# Altium integrated library Analog Devices Data Converters Analog-to-Digital Converters.IntLib: 2404 symbols (part 161 of 346)
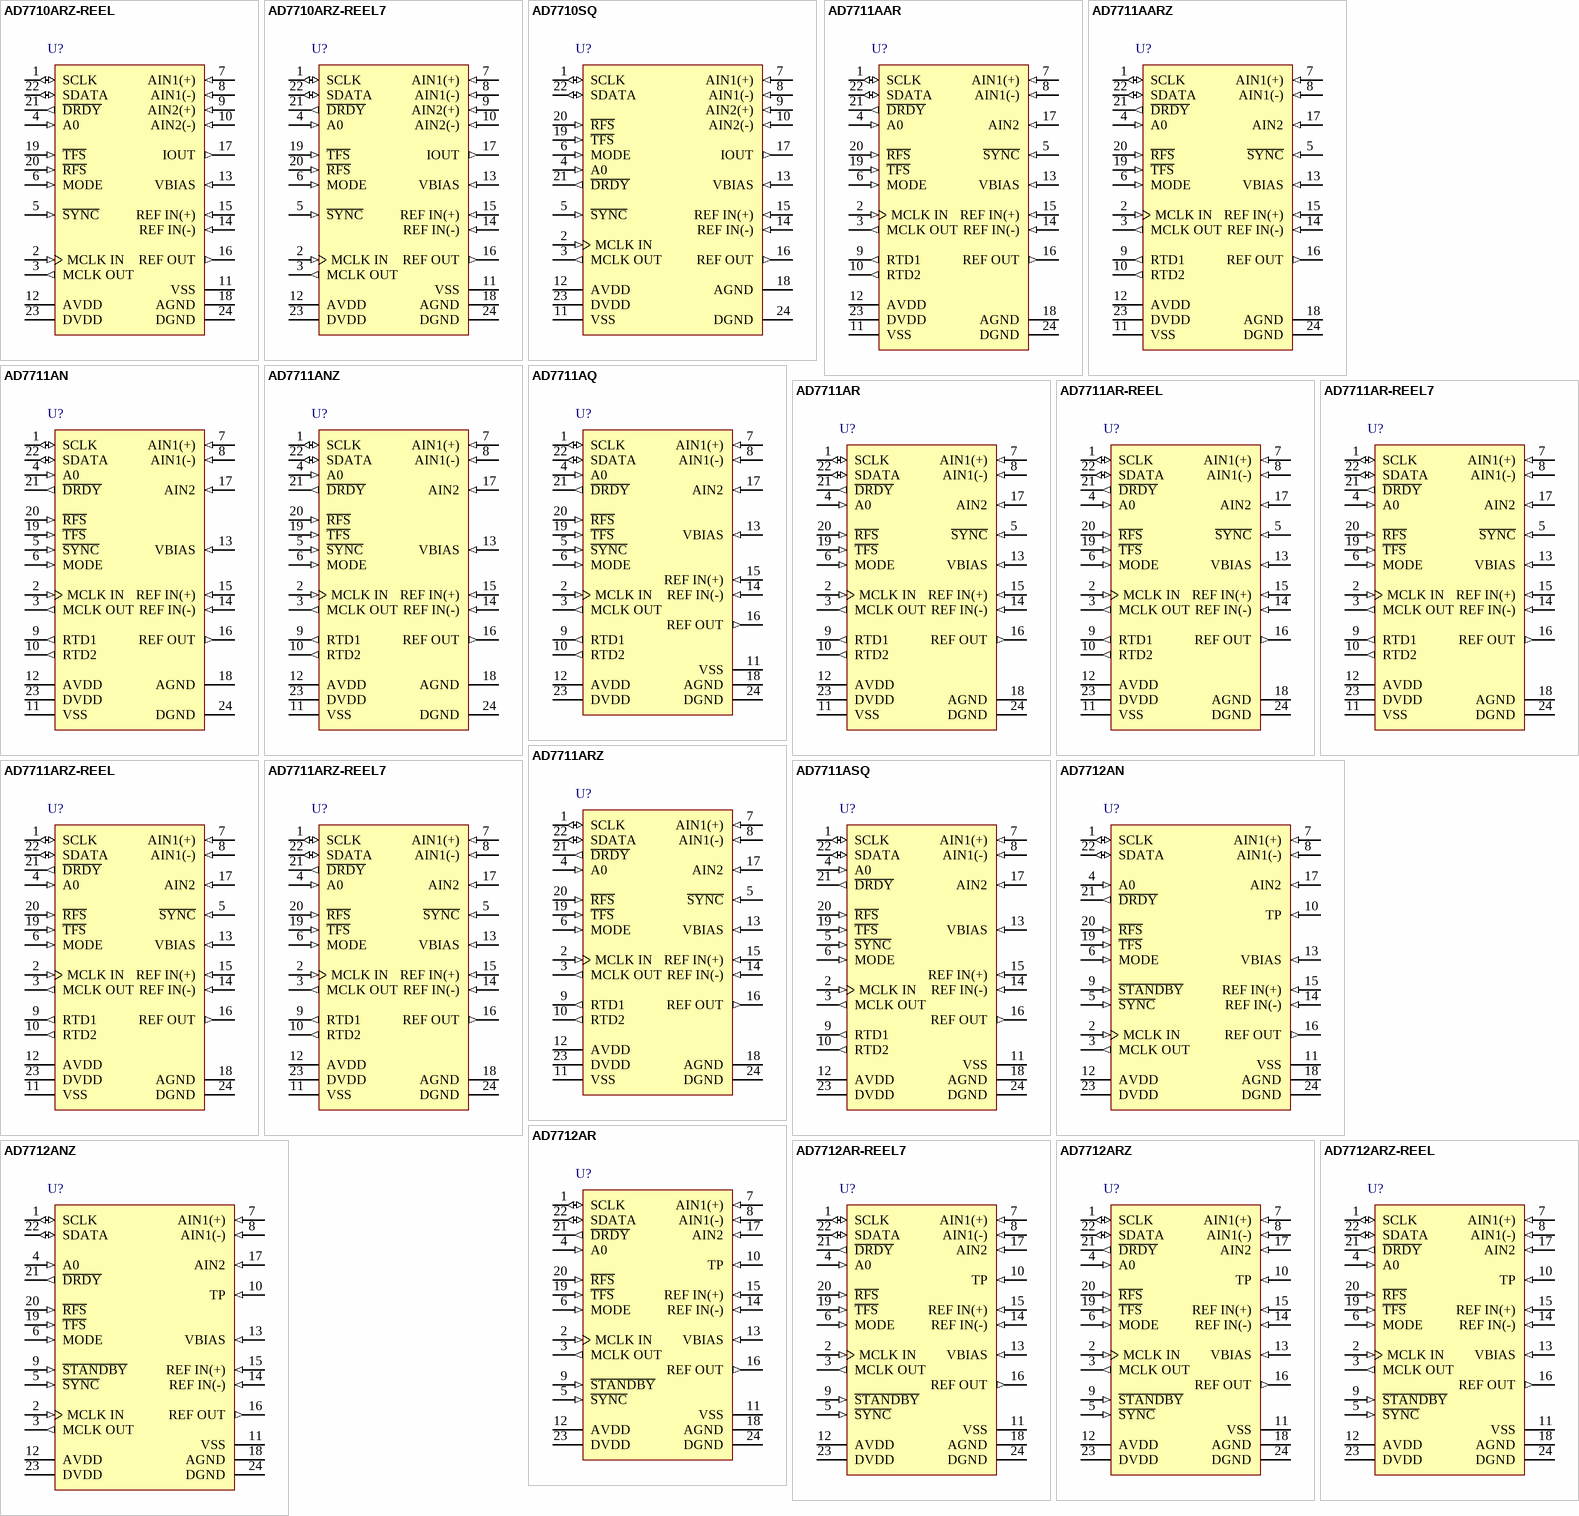
[diagram p243: symbols AD7710ARZ-REEL to AD7712ARZ-REEL]

## AD7710ARZ-REEL7
designator U?
Dual 24-Bit Signal Conditioning Analog-to-Digital Converter with Serial Interface, 1.028KSPS, 0 to +70 degC, RW-24, Pb-Free, Reel; Generic Part Number: AD7710; Manufacturer: Analog Devices; PartNumber: AD7710ARZ-REEL7; Resolution (Bits): 24; Channels: 2; Throughput Rate (SPS): 1.028K; Interface: Ser; DatasheetVersion: Rev.G; PackageVersion: 060706-A; PackageReference: RW-24; PackageDescription: 24-Lead Standard Small Outline Package [SOIC_W]; Supplier 1: Digi-Key; Supplier Part Number 1: AD7710ARZ-REEL7TR-ND; Supplier 2: Digi-Key; Supplier Part Number 2: AD7710ARZ-REEL7CT-ND; Supplier 3: Digi-Key; Supplier Part Number 3: AD7710ARZ-REEL7DKR-ND; Supplier 4: Mouser; Supplier Part Number 4: 584-AD7710ARZ-R7; RoHS: Y; Packing: Reel; Mounting Technology: Surface Mount; Code_JEDEC: MS-013-AD; ComponentLink1Description: Manufacturer URL; ComponentLink1URL: http://www.analog.com/en/index.html; ComponentLink2Description: Datasheet; ComponentLink2URL: http://www.analog.com/static/imported-files/data_sheets/AD7710.pdf; ComponentLink3Description: Package Specification; ComponentLink3URL: http://www.analog.com/static/imported-files/packages/33665150946139RW_24.pdf; ComponentLink4Description: Product URL; ComponentLink4URL: http://www.analog.com/en/analog-to-digital-converters/ad-converters/ad7710/products/product.html
footprint RW-24_N (SOIC, 24-Leads, Body 15.4x7.5mm, Pitch 1.27mm, IPC Medium Density)
footprint RW-24_L (SOIC, 24-Leads, Body 15.4x7.5mm, Pitch 1.27mm, IPC High Density)
footprint RW-24_M (SOIC, 24-Leads, Body 15.4x7.5mm, Pitch 1.27mm, IPC Low Density)
pins: 1 SCLK (io) "Serial Clock. Logic input/output, depending on the status of the MODE pin. When MODE is high, the device is in its self-clocking mode, and the SCLK pin provides a serial clock output. This SCLK becomes active when R\F\S\ or (See Datasheet)", 2 MCLK IN (in) "Master Clock Signal for the Device. This can be provided in the form of a crystal or external clock. A crystal can be tied across the MCLK IN and MCLK OUT pins. Alternatively, the MCLK IN pin can be driven with a (See Datasheet)", 3 MCLK OUT (out) "When the master clock for the device is a crystal, the crystal is connected between MCLK IN and MCLK OUT.", 4 A0 (in) "Address Input. With this input low, reading and writing to the device is to the control register. With this input high, access is to either the data register or the calibration registers.", 5 ~{SYNC} (in) "Logic Input. Allows for synchronization of the digital filters when using a number of AD7710s. It resets the nodes of the digital filter.", 6 MODE (in) "Logic Input. When this pin is high, the device is in its self-clocking mode; with this pin low, the device is in its external clocking mode.", 7 AIN1(+) (in) "Analog Input Channel 1. Positive input of the programmable gain differential analog input. The AIN1(+) input is connected to an output current source that can be used to check that an external transducer has burned out or (See Datasheet)", 8 AIN1(-) (in) "Analog Input Channel 1. Negative input of the programmable gain differential analog input.", 9 AIN2(+) (in) "Analog Input Channel 2. Positive input of the programmable gain differential analog input.", 10 AIN2(-) (in) "Analog Input Channel 2. Negative input of the programmable gain differential analog input.", 11 VSS (power) "Analog Negative Supply, 0 V to -5 V. Tied to AGND for single-supply operation. The input voltage on AIN1 or AIN2 should not go > 30 mV negative w.r.t. VSS for correct operation of the device.", 12 AVDD (power) "Analog Positive Supply Voltage, 5 V to 10 V.", 13 VBIAS (in) "Input Bias Voltage. This input voltage should be set such that VBIAS + 0.85 x VREF < AVDD and VBIAS - 0.85 x VREF  > VSS where VREF is REF IN(+) - REF IN(-). Ideally, this should be tied halfway between AVDD and VSS. Thus (See Datasheet)", 14 REF IN(-) (in) "Reference Input. The REF IN(-) can lie anywhere between AVDD and VSS provided REF IN(+) is greater than REF IN(-).", 15 REF IN(+) (in) "Reference Input. The reference input is differential providing that REF IN(+) is greater than REF IN(-). REF IN(+) can lie anywhere between AVDD and VSS.", 16 REF OUT (out) "Reference Output. The internal 2.5 V reference is provided at this pin. This is a single-ended output which is referred to AGND. It is a buffered output which is capable of providing 1 mA to an external load.", 17 IOUT (out) "Compensation Current Output. A 20 uA constant current is provided at this pin. This current can be used in association with an external thermistor to provide cold junction compensation in thermocouple applications. This (See Datasheet)", 18 AGND (power) "Ground Reference Point for Analog Circuitry.", 19 ~{TFS} (in) "Transmit Frame Synchronization. Active low logic input used to write serial data to the device with serial data expected after the falling edge of this pulse. In the self-clocking mode, the serial clock becomes active after (See Datasheet)", 20 ~{RFS} (in) "Receive Frame Synchronization. Active low logic input used to access serial data from the device. In the self-clocking mode, the SCLK and SDATA lines both become active after R\F\S\ goes low. In the external clocking mode, (See Datasheet)", 21 ~{DRDY} (out) "Logic Output. A falling edge indicates that a new output word is available for transmission. The D\R\D\Y\ pin will return high upon completion of transmission of a full output word. D\R\D\Y\ is also used to indicate when the (See Datasheet)", 22 SDATA (io) "Serial Data. Input/output with serial data being written to either the control register or the calibration registers, and serial data being accessed from the control register, calibration registers, or the data register. (See Datasheet)", 23 DVDD (power) "Digital Supply Voltage, 5 V. DVDD should not exceed AVDD by more than 0.3 V in normal operation.", 24 DGND (power) "Ground Reference Point for Digital Circuitry."

## AD7710SQ
designator U?
Dual 24-Bit Signal Conditioning Analog-to-Digital Converter with Serial Interface, 1.028KSPS, -55 to +125 degC, Q-24, Tube; Generic Part Number: AD7710; Manufacturer: Analog Devices; PartNumber: AD7710SQ; Resolution (Bits): 24; Channels: 2; Throughput Rate (SPS): 1.028K; Interface: Ser; DatasheetVersion: Rev.G; PackageVersion: 2000; PackageReference: Q-24; PackageDescription: 24-Lead Ceramic Dual In-Line Package [CERDIP]; Supplier 1: Digi-Key; Supplier Part Number 1: AD7710SQ-ND; Supplier 2: Farnell; Supplier Part Number 2: 2296090; Supplier 3: Newark; Supplier Part Number 3: 09B5890; Supplier 4: Mouser; Supplier Part Number 4: 584-AD7710SQ; RoHS: N; Packing: Tube; Mounting Technology: Through-hole; ComponentLink1Description: Manufacturer URL; ComponentLink1URL: http://www.analog.com/en/index.html; ComponentLink2Description: Datasheet; ComponentLink2URL: http://www.analog.com/static/imported-files/data_sheets/AD7710.pdf; ComponentLink3Description: Package Specification; ComponentLink3URL: http://www.analog.com/static/imported-files/data_sheets/AD7837_7847.pdf; ComponentLink4Description: Product URL; ComponentLink4URL: http://www.analog.com/en/analog-to-digital-converters/ad-converters/ad7710/products/product.html
footprint Q-24 (DIP, 24-Leads, Row Spacing 7.62mm, Pitch 2.54mm, Body 31.9x6.7mm)
pins: 1 SCLK (io) "Serial Clock. Logic input/output, depending on the status of the MODE pin. When MODE is high, the device is in its self-clocking mode, and the SCLK pin provides a serial clock output. This SCLK becomes active when R\F\S\ or (See Datasheet)", 2 MCLK IN (in) "Master Clock Signal for the Device. This can be provided in the form of a crystal or external clock. A crystal can be tied across the MCLK IN and MCLK OUT pins. Alternatively, the MCLK IN pin can be driven with a (See Datasheet)", 3 MCLK OUT (out) "When the master clock for the device is a crystal, the crystal is connected between MCLK IN and MCLK OUT.", 4 A0 (in) "Address Input. With this input low, reading and writing to the device is to the control register. With this input high, access is to either the data register or the calibration registers.", 5 ~{SYNC} (in) "Logic Input. Allows for synchronization of the digital filters when using a number of AD7710s. It resets the nodes of the digital filter.", 6 MODE (in) "Logic Input. When this pin is high, the device is in its self-clocking mode; with this pin low, the device is in its external clocking mode.", 7 AIN1(+) (in) "Analog Input Channel 1. Positive input of the programmable gain differential analog input. The AIN1(+) input is connected to an output current source that can be used to check that an external transducer has burned out or (See Datasheet)", 8 AIN1(-) (in) "Analog Input Channel 1. Negative input of the programmable gain differential analog input.", 9 AIN2(+) (in) "Analog Input Channel 2. Positive input of the programmable gain differential analog input.", 10 AIN2(-) (in) "Analog Input Channel 2. Negative input of the programmable gain differential analog input.", 11 VSS (power) "Analog Negative Supply, 0 V to -5 V. Tied to AGND for single-supply operation. The input voltage on AIN1 or AIN2 should not go > 30 mV negative w.r.t. VSS for correct operation of the device.", 12 AVDD (power) "Analog Positive Supply Voltage, 5 V to 10 V.", 13 VBIAS (in) "Input Bias Voltage. This input voltage should be set such that VBIAS + 0.85 x VREF < AVDD and VBIAS - 0.85 x VREF  > VSS where VREF is REF IN(+) - REF IN(-). Ideally, this should be tied halfway between AVDD and VSS. Thus (See Datasheet)", 14 REF IN(-) (in) "Reference Input. The REF IN(-) can lie anywhere between AVDD and VSS provided REF IN(+) is greater than REF IN(-).", 15 REF IN(+) (in) "Reference Input. The reference input is differential providing that REF IN(+) is greater than REF IN(-).REF IN(+) can lie anywhere between AVDD and VSS.", 16 REF OUT (out) "Reference Output. The internal 2.5 V reference is provided at this pin. This is a single-ended output which is referred to AGND. It is a buffered output which is capable of providing 1 mA to an external load.", 17 IOUT (out) "Compensation Current Output. A 20 uA constant current is provided at this pin. This current can be used in association with an external thermistor to provide cold junction compensation in thermocouple applications. This (See Datasheet)", 18 AGND (power) "Ground Reference Point for Analog Circuitry.", 19 ~{TFS} (in) "Transmit Frame Synchronization. Active low logic input used to write serial data to the device with serial data expected after the falling edge of this pulse. In the self-clocking mode, the serial clock becomes active after (See Datasheet)", 20 ~{RFS} (in) "Receive Frame Synchronization. Active low logic input used to access serial data from the device. In the self-clocking mode, the SCLK and SDATA lines both become active after R\F\S\ goes low. In the external clocking mode, (See Datasheet)", 21 ~{DRDY} (out) "Logic Output. A falling edge indicates that a new output word is available for transmission. The DRDY pin will return high upon completion of transmission of a full output word. DRDY is also used to indicate when the AD7711 (See Datasheet)", 22 SDATA (io) "Serial Data. Input/output with serial data being written to either the control register or the calibration registers, and serial data being accessed from the control register, calibration registers, or the data register. (See Datasheet)", 23 DVDD (power) "Digital Supply Voltage, 5 V. DVDD should not exceed AVDD by more than 0.3 V in normal operation.", 24 DGND (power) "Ground Reference Point for Digital Circuitry."

## AD7711AAR
designator U?
Dual 24-Bit Signal Conditioning Analog-to-Digital Converter with Serial Interface and RTD Excitation Currents, LC2MOS, 1.028KSPS, -40 to +85 degC, RW-24, Tube; Generic Part Number: AD7711; Manufacturer: Analog Devices; PartNumber: AD7711AAR; Resolution (Bits): 24; Channels: 2; Throughput Rate (SPS): 1.028K; Interface: Ser; DatasheetVersion: Rev.G; PackageVersion: 060706-A; PackageReference: RW-24; PackageDescription: 24-Lead Standard Small Outline Package [SOIC_W]; Supplier 1: Digi-Key; Supplier Part Number 1: AD7711AAR-ND; Supplier 2: Mouser; Supplier Part Number 2: 584-AD7711AAR; RoHS: N; Packing: Tube; Mounting Technology: Surface Mount; Code_JEDEC: MS-013-AD; ComponentLink1Description: Manufacturer URL; ComponentLink1URL: http://www.analog.com/en/index.html; ComponentLink2Description: Datasheet; ComponentLink2URL: http://www.analog.com/static/imported-files/data_sheets/AD7711.pdf; ComponentLink3Description: Package Specification; ComponentLink3URL: http://www.analog.com/static/imported-files/packages/33665150946139RW_24.pdf; ComponentLink4Description: Product URL; ComponentLink4URL: http://www.analog.com/en/analog-to-digital-converters/ad-converters/ad7711/products/product.html
footprint RW-24_N (SOIC, 24-Leads, Body 15.4x7.5mm, Pitch 1.27mm, IPC Medium Density)
footprint RW-24_L (SOIC, 24-Leads, Body 15.4x7.5mm, Pitch 1.27mm, IPC High Density)
footprint RW-24_M (SOIC, 24-Leads, Body 15.4x7.5mm, Pitch 1.27mm, IPC Low Density)
pins: 1 SCLK (io) "Serial Clock. Logic input/output, depending on the status of the MODE pin. When MODE is high, the device is in its self-clocking mode, and the SCLK pin provides a serial clock output. This SCLK becomes active when R\F\S \or (See Datasheet)", 2 MCLK IN (in) "Master Clock Signal for the Device. This can be provided in the form of a crystal or external clock. A crystal can be tied across the MCLK IN and MCLK OUT pins. Alternatively, the MCLK IN pin can be driven with a (See Datasheet)", 3 MCLK OUT (out) "When the master clock for the device is a crystal, the crystal is connected between MCLK IN and MCLK OUT.", 4 A0 (in) "Address Input. With this input low, reading and writing to the device is to the control register. With this input high, access is to either the data register or the calibration registers.", 5 ~{SYNC} (in) "Logic Input.  Allows  for synchronization of the digital filters when using a number of AD7711s. It resets the nodes of the digital filter.", 6 MODE (in) "Logic Input. When this pin is high, the device is in its self-clocking mode; with this pin low, the device is in its external clocking mode.", 7 AIN1(+) (in) "Analog  Input Channel 1. Positive input of the programmable gain differential  analog  input. The AIN1(+) input is connected to an output current source that can be used to check that an external transducer has burned out or (See Datasheet)", 8 AIN1(-) (in) "Analog Input Channel 1. Negative input of the programmable gain differential  analog  input.", 9 RTD1 (out) "Constant Current Output. A nominal 200 uA constant current is provided at this pin; this current can be used as the excitation current for RTDs. This current can be turned on or off via the control register.", 10 RTD2 (out) "Constant Current Output. A nominal 200 uA constant current is provided at this pin; this current can be used as the excitation current for RTDs. This current can be turned on or off via the control register, and can be used (See Datasheet)", 11 VSS (power) "Analog Negative Supply, 0 V to -5 V. Tied to AGND for single-supply operation. The input voltage on AIN1 or AIN2 should not go > 30 mV negative w.r.t. VSS for correct operation of the device.", 12 AVDD (power) "Analog  Positive Supply Voltage, 5 V to 10 V.", 13 VBIAS (in) "Input Bias Voltage. This input voltage should be set such that VBIAS + 0.85 xVREF < AVDD and VBIAS - 0.85 x VREF > VSS where VREF is REF IN(+) - REF IN(-). Ideally, this should be tied halfway between AVDD and VSS. Thus with (See Datasheet)", 14 REF IN(-) (in) "Reference Input. The REF IN(-) can lie anywhere between AVDD and VSS provided REF IN(+) is greater than REF IN(-).", 15 REF IN(+) (in) "Reference Input. The reference input is differential provided REF IN(+) is greater than REF IN(-).REF IN(+) can lie anywhere between AVDD and VSS.", 16 REF OUT (out) "Reference Output. The internal 2.5 V reference is provided at this pin. This is a single-ended outputthat is referred to AGND. It is a buffered output capable of providing 1 mA to an external load.", 17 AIN2 (in) "Analog  Input Channel 2. Single-ended programmable gain  analog  input.", 18 AGND (power) "Ground Reference Point for Analog Circuitry.", 19 ~{TFS} (in) "Transmit Frame Synchronization. Active low logic input used to write serial data to the device with serial data expected after the falling edge of this pulse. In the self-clocking mode, the serial clock becomes active after (See Datasheet)", 20 ~{RFS} (in) "Receive Frame Synchronization. Active low logic input used to access serial data from the device. In the self-clocking mode, the SCLK and SDATA lines both become active after R\F\S\ goes low. In the external clocking mode, (See Datasheet)", 21 ~{DRDY} (out) "Logic  Output. A falling edge indicates that a new output word is available for transmission. The D\R\D\Y\ pin will return high upon completion of transmission of a full output word. D\R\D\Y\ is also used to indicate when (See Datasheet)", 22 SDATA (io) "Serial Data. Input/output with serial data being written to either the control register or the calibration registers and serial data being accessed from the control register, calibration registers, or the data register.(See Datasheet)", 23 DVDD (power) "Digital Supply Voltage, 5 V. DVDD should not exceed AVDD by more than 0.3 V in normal operation.", 24 DGND (power) "Ground Reference Point for Digital Circuitry."

## AD7711AARZ
designator U?
Dual 24-Bit Signal Conditioning Analog-to-Digital Converter with Serial Interface and RTD Excitation Currents, LC2MOS, 1.028KSPS, -40 to +85 degC, RW-24, Pb-Free, Tube; Generic Part Number: AD7711; Manufacturer: Analog Devices; PartNumber: AD7711AARZ; Resolution (Bits): 24; Channels: 2; Throughput Rate (SPS): 1.028K; Interface: Ser; DatasheetVersion: Rev.G; PackageVersion: 060706-A; PackageReference: RW-24; PackageDescription: 24-Lead Standard Small Outline Package [SOIC_W]; Supplier 1: Digi-Key; Supplier Part Number 1: AD7711AARZ-ND; Supplier 2: Newark; Supplier Part Number 2: 59K5310; Supplier 3: Mouser; Supplier Part Number 3: 584-AD7711AARZ; RoHS: Y; Packing: Tube; Mounting Technology: Surface Mount; Code_JEDEC: MS-013-AD; ComponentLink1Description: Manufacturer URL; ComponentLink1URL: http://www.analog.com/en/index.html; ComponentLink2Description: Datasheet; ComponentLink2URL: http://www.analog.com/static/imported-files/data_sheets/AD7711.pdf; ComponentLink3Description: Package Specification; ComponentLink3URL: http://www.analog.com/static/imported-files/packages/33665150946139RW_24.pdf; ComponentLink4Description: Product URL; ComponentLink4URL: http://www.analog.com/en/analog-to-digital-converters/ad-converters/ad7711/products/product.html
footprint RW-24_N (SOIC, 24-Leads, Body 15.4x7.5mm, Pitch 1.27mm, IPC Medium Density)
footprint RW-24_L (SOIC, 24-Leads, Body 15.4x7.5mm, Pitch 1.27mm, IPC High Density)
footprint RW-24_M (SOIC, 24-Leads, Body 15.4x7.5mm, Pitch 1.27mm, IPC Low Density)
pins: 1 SCLK (io) "Serial Clock. Logic input/output, depending on the status of the MODE pin. When MODE is high, the device is in its self-clocking mode, and the SCLK pin provides a serial clock output. This SCLK becomes active when R\F\S \or (See Datasheet)", 2 MCLK IN (in) "Master Clock Signal for the Device. This can be provided in the form of a crystal or external clock. A crystal can be tied across the MCLK IN and MCLK OUT pins. Alternatively, the MCLK IN pin can be driven with a (See Datasheet)", 3 MCLK OUT (out) "When the master clock for the device is a crystal, the crystal is connected between MCLK IN and MCLK OUT.", 4 A0 (in) "Address Input. With this input low, reading and writing to the device is to the control register. With this input high, access is to either the data register or the calibration registers.", 5 ~{SYNC} (in) "Logic Input.  Allows  for synchronization of the digital filters when using a number of AD7711s. It resets the nodes of the digital filter.", 6 MODE (in) "Logic Input. When this pin is high, the device is in its self-clocking mode; with this pin low, the device is in its external clocking mode.", 7 AIN1(+) (in) "Analog  Input Channel 1. Positive input of the programmable gain differential  analog  input. The AIN1(+) input is connected to an output current source that can be used to check that an external transducer has burned out or (See Datasheet)", 8 AIN1(-) (in) "Analog Input Channel 1. Negative input of the programmable gain differential  analog  input.", 9 RTD1 (out) "Constant Current Output. A nominal 200 uA constant current is provided at this pin; this current can be used as the excitation current for RTDs. This current can be turned on or off via the control register.", 10 RTD2 (out) "Constant Current Output. A nominal 200 uA constant current is provided at this pin; this current can be used as the excitation current for RTDs. This current can be turned on or off via the control register, and can be used (See Datasheet)", 11 VSS (power) "Analog Negative Supply, 0 V to -5 V. Tied to AGND for single-supply operation. The input voltage on AIN1 or AIN2 should not go > 30 mV negative w.r.t. VSS for correct operation of the device.", 12 AVDD (power) "Analog  Positive Supply Voltage, 5 V to 10 V.", 13 VBIAS (in) "Input Bias Voltage. This input voltage should be set such that VBIAS + 0.85 xVREF < AVDD and VBIAS - 0.85 x VREF > VSS where VREF is REF IN(+) - REF IN(-). Ideally, this should be tied halfway between AVDD and VSS. Thus with (See Datasheet)", 14 REF IN(-) (in) "Reference Input. The REF IN(-) can lie anywhere between AVDD and VSS provided REF IN(+) is greater than REF IN(-).", 15 REF IN(+) (in) "Reference Input. The reference input is differential provided REF IN(+) is greater than REF IN(-).REF IN(+) can lie anywhere between AVDD and VSS.", 16 REF OUT (out) "Reference Output. The internal 2.5 V reference is provided at this pin. This is a single-ended outputthat is referred to AGND. It is a buffered output capable of providing 1 mA to an external load.", 17 AIN2 (in) "Analog  Input Channel 2. Single-ended programmable gain  analog  input.", 18 AGND (power) "Ground Reference Point for Analog Circuitry.", 19 ~{TFS} (in) "Transmit Frame Synchronization. Active low logic input used to write serial data to the device with serial data expected after the falling edge of this pulse. In the self-clocking mode, the serial clock becomes active after (See Datasheet)", 20 ~{RFS} (in) "Receive Frame Synchronization. Active low logic input used to access serial data from the device. In the self-clocking mode, the SCLK and SDATA lines both become active after R\F\S\ goes low. In the external clocking mode, (See Datasheet)", 21 ~{DRDY} (out) "Logic  Output. A falling edge indicates that a new output word is available for transmission. The D\R\D\Y\ pin will return high upon completion of transmission of a full output word. D\R\D\Y\ is also used to indicate when (See Datasheet)", 22 SDATA (io) "Serial Data. Input/output with serial data being written to either the control register or the calibration registers and serial data being accessed from the control register, calibration registers, or the data register.(See Datasheet)", 23 DVDD (power) "Digital Supply Voltage, 5 V. DVDD should not exceed AVDD by more than 0.3 V in normal operation.", 24 DGND (power) "Ground Reference Point for Digital Circuitry."

## AD7711AN
designator U?
Dual 24-Bit Signal Conditioning Analog-to-Digital Converter with Serial Interface and RTD Excitation Currents, LC2MOS, 1.028KSPS, -40 to +85 degC, N-24-1, Tube; Generic Part Number: AD7711; Manufacturer: Analog Devices; PartNumber: AD7711AN; Resolution (Bits): 24; Channels: 2; Throughput Rate (SPS): 1.028K; Interface: Ser; DatasheetVersion: Rev.G; PackageVersion: 071006-A; PackageReference: N-24-1; PackageDescription: 24-Lead Plastic Dual In-Line Package [PDIP] Narrow Body; Supplier 1: Digi-Key; Supplier Part Number 1: AD7711AN-ND; Supplier 2: Newark; Supplier Part Number 2: 05F7525; RoHS: N; Packing: Tube; Mounting Technology: Through-hole; Code_JEDEC: MS-001; ComponentLink1Description: Manufacturer URL; ComponentLink1URL: http://www.analog.com/en/index.html; ComponentLink2Description: Datasheet; ComponentLink2URL: http://www.analog.com/static/imported-files/data_sheets/AD7711.pdf; ComponentLink3Description: Package Specification; ComponentLink3URL: http://www.analog.com/static/imported-files/packages/50726455539629N_24_1.pdf; ComponentLink4Description: Product URL; ComponentLink4URL: http://www.analog.com/en/analog-to-digital-converters/ad-converters/ad7711/products/product.html
footprint N-24-1 (DIP, 24-Leads, Row Spacing 7.62mm, Pitch 2.54mm, Body 31.9x6.6mm)
pins: 1 SCLK (io) "Serial Clock. Logic input/output, depending on the status of the MODE pin. When MODE is high, the device is in its self-clocking mode, and the SCLK pin provides a serial clock output. This SCLK becomes active when R\F\S\ or (See Datasheet)", 2 MCLK IN (in) "Master Clock Signal for the Device. This can be provided in the form of a crystal or external clock. A crystal can be tied across the MCLK IN and MCLK OUT pins. Alternatively, the MCLK IN pin can be driven with a (See Datasheet)", 3 MCLK OUT (out) "When the master clock for the device is a crystal, the crystal is connected between MCLK IN and MCLK OUT.", 4 A0 (in) "Address Input. With this input low, reading and writing to the device is to the control register. With this input high, access is to either the data register or the calibration registers.", 5 ~{SYNC} (in) "Logic Input. Allows for synchronization of the digital filters when using a number of AD7711s. It resets the nodes of the digital filter.", 6 MODE (in) "Logic Input. When this pin is high, the device is in its self-clocking mode; with this pin low, the device is in its external clocking mode.", 7 AIN1(+) (in) "Analog Input Channel 1. Positive input of the programmable gain differential analog input. The AIN1(+) input is connected to an output current source that can be used to check that an external transducer has burned out or (See Datasheet)", 8 AIN1(-) (in) "Analog Input Channel 1. Negative input of the programmable gain differential analog input.", 9 RTD1 (out) "Constant Current Output. A nominal 200 uA constant current is provided at this pin; this current can be used as the excitation current for RTDs. This current can be turned on or off via the control register.", 10 RTD2 (out) "Constant Current Output. A nominal 200 uA constant current is provided at this pin; this current can be used as the excitation current for RTDs. This current can be turned on or off via the control register, and can be used (See Datasheet)", 11 VSS (power) "Analog Negative Supply, 0 V to -5 V. Tied to AGND for single-supply operation. The input voltage on AIN1 or AIN2 should not go > 30 mV negative w.r.t. VSS for correct operation of the device.", 12 AVDD (power) "Analog Positive Supply Voltage, 5 V to 10 V.", 13 VBIAS (in) "Input Bias Voltage. This input voltage should be set such that VBIAS + 0.85 x VREF < AVDD and VBIAS - 0.85 x VREF  > VSS where VREF is REF IN(+) - REF IN(-). Ideally, this should be tied halfway between AVDD and VSS. Thus (See Datasheet)", 14 REF IN(-) (in) "Reference Input. The REF IN(-) can lie anywhere between AVDD and VSS provided REF IN(+) is greater than REF IN(-).", 15 REF IN(+) (in) "Reference Input. The reference input is differential provided REF IN(+) is greater than REF IN(-). REF IN(+) can lie anywhere between AVDD and VSS.", 16 REF OUT (out) "Reference Output. The internal 2.5 V reference is provided at this pin. This is a single-ended output that is referred to AGND. It is a buffered output capable of providing 1 mA to an external load.", 17 AIN2 (in) "Analog Input Channel 2. Single-ended programmable gain analog input.", 18 AGND (power) "Ground Reference Point for Analog Circuitry.", 19 ~{TFS} (in) "Transmit Frame Synchronization. Active low logic input used to write serial data to the device with serial data expected after the falling edge of this pulse. In the self-clocking mode, the serial clock becomes active after (See Datasheet)", 20 ~{RFS} (in) "Receive Frame Synchronization. Active low logic input used to access serial data from the device. In the self-clocking mode, the SCLK and SDATA lines both become active after RFS goes low. In the external clocking mode, the (See Datasheet)", 21 ~{DRDY} (out) "Logic Output. A falling edge indicates that a new output word is available for transmission. The DRDY pin will return high upon completion of transmission of a full output word. DRDY is also used to indicate when the AD7711 (See Datasheet)", 22 SDATA (io) "Serial Data. Input/output with serial data being written to either the control register or the calibration registers, and serial data being accessed from the control register, calibration registers, or the data register. (See Datasheet)", 23 DVDD (power) "Digital Supply Voltage, 5 V. DVDD should not exceed AVDD by more than 0.3 V in normal operation.", 24 DGND (power) "Ground Reference Point for Digital Circuitry."

## AD7711ANZ
designator U?
Dual 24-Bit Signal Conditioning Analog-to-Digital Converter with Serial Interface and RTD Excitation Currents, LC2MOS, 1.028KSPS, -40 to +85 degC, N-24-1, Pb-Free, Tube; Generic Part Number: AD7711; Manufacturer: Analog Devices; PartNumber: AD7711ANZ; Resolution (Bits): 24; Channels: 2; Throughput Rate (SPS): 1.028K; Interface: Ser; DatasheetVersion: Rev.G; PackageVersion: 071006-A; PackageReference: N-24-1; PackageDescription: 24-Lead Plastic Dual In-Line Package [PDIP] Narrow Body; Supplier 1: Digi-Key; Supplier Part Number 1: AD7711ANZ-ND; Supplier 2: Farnell; Supplier Part Number 2: 1438537; Supplier 3: Newark; Supplier Part Number 3: 59K5311; Supplier 4: Newark; Supplier Part Number 4: 15P0845; Supplier 5: Mouser; Supplier Part Number 5: 584-AD7711ANZ; RoHS: Y; Packing: Tube; Mounting Technology: Through-hole; Code_JEDEC: MS-001; ComponentLink1Description: Manufacturer URL; ComponentLink1URL: http://www.analog.com/en/index.html; ComponentLink2Description: Datasheet; ComponentLink2URL: http://www.analog.com/static/imported-files/data_sheets/AD7711.pdf; ComponentLink3Description: Package Specification; ComponentLink3URL: http://www.analog.com/static/imported-files/packages/50726455539629N_24_1.pdf; ComponentLink4Description: Product URL; ComponentLink4URL: http://www.analog.com/en/analog-to-digital-converters/ad-converters/ad7711/products/product.html
footprint N-24-1 (DIP, 24-Leads, Row Spacing 7.62mm, Pitch 2.54mm, Body 31.9x6.6mm)
pins: 1 SCLK (io) "Serial Clock. Logic input/output, depending on the status of the MODE pin. When MODE is high, the device is in its self-clocking mode, and the SCLK pin provides a serial clock output. This SCLK becomes active when R\F\S\ or (See Datasheet)", 2 MCLK IN (in) "Master Clock Signal for the Device. This can be provided in the form of a crystal or external clock. A crystal can be tied across the MCLK IN and MCLK OUT pins. Alternatively, the MCLK IN pin can be driven with a (See Datasheet)", 3 MCLK OUT (out) "When the master clock for the device is a crystal, the crystal is connected between MCLK IN and MCLK OUT.", 4 A0 (in) "Address Input. With this input low, reading and writing to the device is to the control register. With this input high, access is to either the data register or the calibration registers.", 5 ~{SYNC} (in) "Logic Input. Allows for synchronization of the digital filters when using a number of AD7711s. It resets the nodes of the digital filter.", 6 MODE (in) "Logic Input. When this pin is high, the device is in its self-clocking mode; with this pin low, the device is in its external clocking mode.", 7 AIN1(+) (in) "Analog Input Channel 1. Positive input of the programmable gain differential analog input. The AIN1(+) input is connected to an output current source that can be used to check that an external transducer has burned out or (See Datasheet)", 8 AIN1(-) (in) "Analog Input Channel 1. Negative input of the programmable gain differential analog input.", 9 RTD1 (out) "Constant Current Output. A nominal 200 uA constant current is provided at this pin; this current can be used as the excitation current for RTDs. This current can be turned on or off via the control register.", 10 RTD2 (out) "Constant Current Output. A nominal 200 uA constant current is provided at this pin; this current can be used as the excitation current for RTDs. This current can be turned on or off via the control register, and can be used (See Datasheet)", 11 VSS (power) "Analog Negative Supply, 0 V to -5 V. Tied to AGND for single-supply operation. The input voltage on AIN1 or AIN2 should not go > 30 mV negative w.r.t. VSS for correct operation of the device.", 12 AVDD (power) "Analog Positive Supply Voltage, 5 V to 10 V.", 13 VBIAS (in) "Input Bias Voltage. This input voltage should be set such that VBIAS + 0.85 x VREF < AVDD and VBIAS - 0.85 x VREF  > VSS where VREF is REF IN(+) - REF IN(-). Ideally, this should be tied halfway between AVDD and VSS. Thus (See Datasheet)", 14 REF IN(-) (in) "Reference Input. The REF IN(-) can lie anywhere between AVDD and VSS provided REF IN(+) is greater than REF IN(-).", 15 REF IN(+) (in) "Reference Input. The reference input is differential provided REF IN(+) is greater than REF IN(-). REF IN(+) can lie anywhere between AVDD and VSS.", 16 REF OUT (out) "Reference Output. The internal 2.5 V reference is provided at this pin. This is a single-ended output that is referred to AGND. It is a buffered output capable of providing 1 mA to an external load.", 17 AIN2 (in) "Analog Input Channel 2. Single-ended programmable gain analog input.", 18 AGND (power) "Ground Reference Point for Analog Circuitry.", 19 ~{TFS} (in) "Transmit Frame Synchronization. Active low logic input used to write serial data to the device with serial data expected after the falling edge of this pulse. In the self-clocking mode, the serial clock becomes active after (See Datasheet)", 20 ~{RFS} (in) "Receive Frame Synchronization. Active low logic input used to access serial data from the device. In the self-clocking mode, the SCLK and SDATA lines both become active after RFS goes low. In the external clocking mode, the (See Datasheet)", 21 ~{DRDY} (out) "Logic Output. A falling edge indicates that a new output word is available for transmission. The DRDY pin will return high upon completion of transmission of a full output word. DRDY is also used to indicate when the AD7711 (See Datasheet)", 22 SDATA (io) "Serial Data. Input/output with serial data being written to either the control register or the calibration registers, and serial data being accessed from the control register, calibration registers, or the data register. (See Datasheet)", 23 DVDD (power) "Digital Supply Voltage, 5 V. DVDD should not exceed AVDD by more than 0.3 V in normal operation.", 24 DGND (power) "Ground Reference Point for Digital Circuitry."

## AD7711AQ
designator U?
Dual 24-Bit Signal Conditioning Analog-to-Digital Converter with Serial Interface and RTD Excitation Currents, LC2MOS, 1.028KSPS, -40 to +85 degC, Q-24, Tube; Generic Part Number: AD7711; Manufacturer: Analog Devices; PartNumber: AD7711AQ; Resolution (Bits): 24; Channels: 2; Throughput Rate (SPS): 1.028K; Interface: Ser; DatasheetVersion: Rev.G; PackageVersion: 2000; PackageReference: Q-24; PackageDescription: 24-Lead Ceramic Dual In-Line Package [CERDIP]; Supplier 1: Digi-Key; Supplier Part Number 1: AD7711AQ-ND; Supplier 2: Mouser; Supplier Part Number 2: 584-AD7711AQ; RoHS: N; Packing: Tube; Mounting Technology: Through-hole; ComponentLink1Description: Manufacturer URL; ComponentLink1URL: http://www.analog.com/en/index.html; ComponentLink2Description: Datasheet; ComponentLink2URL: http://www.analog.com/static/imported-files/data_sheets/AD7711.pdf; ComponentLink3Description: Package Specification; ComponentLink3URL: http://www.analog.com/static/imported-files/data_sheets/AD7837_7847.pdf; ComponentLink4Description: Product URL; ComponentLink4URL: http://www.analog.com/en/analog-to-digital-converters/ad-converters/ad7711/products/product.html
footprint Q-24 (DIP, 24-Leads, Row Spacing 7.62mm, Pitch 2.54mm, Body 31.9x6.7mm)
pins: 1 SCLK (io) "Serial Clock. Logic input/output, depending on the status of the MODE pin. When MODE is high, the device is in its self-clocking mode, and the SCLK pin provides a serial clock output. This SCLK becomes active when R\F\S \or (See Datasheet)", 2 MCLK IN (in) "Master Clock Signal for the Device. This can be provided in the form of a crystal or external clock. A crystal can be tied across the MCLK IN and MCLK OUT pins. Alternatively, the MCLK IN pin can be driven with a (See Datasheet)", 3 MCLK OUT (out) "When the master clock for the device is a crystal, the crystal is connected between MCLK IN and MCLK OUT.", 4 A0 (in) "Address Input. With this input low, reading and writing to the device is to the control register. With this input high, access is to either the data register or the calibration registers.", 5 ~{SYNC} (in) "Logic Input.  Allows  for synchronization of the digital filters when using a number of AD7711s. It resets the nodes of the digital filter.", 6 MODE (in) "Logic Input. When this pin is high, the device is in its self-clocking mode; with this pin low, the device is in its external clocking mode.", 7 AIN1(+) (in) "Analog  Input Channel 1. Positive input of the programmable gain differential  analog  input. The AIN1(+) input is connected to an output current source that can be used to check that an external transducer has burned out or (See Datasheet)", 8 AIN1(-) (in) "Analog Input Channel 1. Negative input of the programmable gain differential  analog  input.", 9 RTD1 (out) "Constant Current Output. A nominal 200 uA. constant current is provided at this pin; this current can be used as the excitation current for RTDs. This current can be turned on or off via the control register.", 10 RTD2 (out) "Constant Current Output. A nominal 200 uA. constant current is provided at this pin; this current can be used as the excitation current for RTDs. This current can be turned on or off via the control register, and can be used (See Datasheet)", 11 VSS (power) "Analog Negative Supply, 0 V to -5 V. Tied to AGND for single-supply operation. The input voltage on AIN1 or AIN2 should not go > 30 mV negative w.r.t. VSS for correct operation of the device.", 12 AVDD (power) "Analog  Positive Supply Voltage, 5 V to 10 V.", 13 VBIAS (in) "Input Bias Voltage. This input voltage should be set such that VBIAS + 0.85 x VREF < AVDD and VBIAS - 0.85 x VREF > VSS where VREF is REF IN(+) - REF IN(-). Ideally, this should be tied halfway between AVDD and VSS. Thus (See Datasheet)", 14 REF IN(-) (in) "Reference Input. The REF IN(-) can lie anywhere between AVDD and VSS provided REF IN(+) is greater than REF IN(-).", 15 REF IN(+) (in) "Reference Input. The reference input is differential provided REF IN(+) is greater than REF IN(-).REF IN(+) can lie anywhere between AVDD and VSS.", 16 REF OUT (out) "Reference Output. The internal 2.5 V reference is provided at this pin. This is a single-ended outputthat is referred to AGND. It is a buffered output capable of providing 1 mA to an external load.", 17 AIN2 (in) "Analog  Input Channel 2. Single-ended programmable gain  analog  input.", 18 AGND (power) "Ground Reference Point for Analog Circuitry.", 19 ~{TFS} (in) "Transmit Frame Synchronization. Active low logic input used to write serial data to the device with serial data expected after the falling edge of this pulse. In the self-clocking mode, the serial clock becomes active after (See Datasheet)", 20 ~{RFS} (in) "Receive Frame Synchronization. Active low logic input used to access serial data from the device. In the self-clocking mode, the SCLK and SDATA lines both become active after R\F\S\ goes low. In the external clocking mode, (See Datasheet)", 21 ~{DRDY} (out) "Logic  Output. A falling edge indicates that a new output word is available for transmission. The D\R\D\Y\ pin will return high upon completion of transmission of a full output word. D\R\D\Y\ is also used to indicate when (See Datasheet)", 22 SDATA (io) "Serial Data. Input/output with serial data being written to either the control register or the calibration registers and serial data being accessed from the control register, calibration registers, or the data register.(See Datasheet)", 23 DVDD (power) "Digital Supply Voltage, 5 V. DVDD should not exceed AVDD by more than 0.3 V in normal operation.", 24 DGND (power) "Ground Reference Point for Digital Circuitry."

## AD7711AR
designator U?
Dual 24-Bit Signal Conditioning Analog-to-Digital Converter with Serial Interface and RTD Excitation Currents, LC2MOS, 1.028KSPS, -40 to +85 degC, RW-24, Tube; Generic Part Number: AD7711; Manufacturer: Analog Devices; PartNumber: AD7711AR; Resolution (Bits): 24; Channels: 2; Throughput Rate (SPS): 1.028K; Interface: Ser; DatasheetVersion: Rev.G; PackageVersion: 060706-A; PackageReference: RW-24; PackageDescription: 24-Lead Standard Small Outline Package [SOIC_W]; Supplier 1: Digi-Key; Supplier Part Number 1: AD7711AR-ND; Supplier 2: Mouser; Supplier Part Number 2: 584-AD7711AR; RoHS: N; Packing: Tube; Mounting Technology: Surface Mount; Code_JEDEC: MS-013-AD; ComponentLink1Description: Manufacturer URL; ComponentLink1URL: http://www.analog.com/en/index.html; ComponentLink2Description: Datasheet; ComponentLink2URL: http://www.analog.com/static/imported-files/data_sheets/AD7711.pdf; ComponentLink3Description: Package Specification; ComponentLink3URL: http://www.analog.com/static/imported-files/packages/33665150946139RW_24.pdf; ComponentLink4Description: Product URL; ComponentLink4URL: http://www.analog.com/en/analog-to-digital-converters/ad-converters/ad7711/products/product.html
footprint RW-24_N (SOIC, 24-Leads, Body 15.4x7.5mm, Pitch 1.27mm, IPC Medium Density)
footprint RW-24_L (SOIC, 24-Leads, Body 15.4x7.5mm, Pitch 1.27mm, IPC High Density)
footprint RW-24_M (SOIC, 24-Leads, Body 15.4x7.5mm, Pitch 1.27mm, IPC Low Density)
pins: 1 SCLK (io) "Serial Clock. Logic input/output, depending on the status of the MODE pin. When MODE is high, the device is in its self-clocking mode, and the SCLK pin provides a serial clock output. This SCLK becomes active when R\F\S \or (See Datasheet)", 2 MCLK IN (in) "Master Clock Signal for the Device. This can be provided in the form of a crystal or external clock. A crystal can be tied across the MCLK IN and MCLK OUT pins. Alternatively, the MCLK IN pin can be driven with a (See Datasheet)", 3 MCLK OUT (out) "When the master clock for the device is a crystal, the crystal is connected between MCLK IN and MCLK OUT.", 4 A0 (in) "Address Input. With this input low, reading and writing to the device is to the control register. With this input high, access is to either the data register or the calibration registers.", 5 ~{SYNC} (in) "Logic Input.  Allows  for synchronization of the digital filters when using a number of AD7711s. It resets the nodes of the digital filter.", 6 MODE (in) "Logic Input. When this pin is high, the device is in its self-clocking mode; with this pin low, the device is in its external clocking mode.", 7 AIN1(+) (in) "Analog  Input Channel 1. Positive input of the programmable gain differential  analog  input. The AIN1(+) input is connected to an output current source that can be used to check that an external transducer has burned out or (See Datasheet)", 8 AIN1(-) (in) "Analog Input Channel 1. Negative input of the programmable gain differential  analog  input.", 9 RTD1 (out) "Constant Current Output. A nominal 200 uA constant current is provided at this pin; this current can be used as the excitation current for RTDs. This current can be turned on or off via the control register.", 10 RTD2 (out) "Constant Current Output. A nominal 200 uA constant current is provided at this pin; this current can be used as the excitation current for RTDs. This current can be turned on or off via the control register, and can be used (See Datasheet)", 11 VSS (power) "Analog Negative Supply, 0 V to -5 V. Tied to AGND for single-supply operation. The input voltage on AIN1 or AIN2 should not go > 30 mV negative w.r.t. VSS for correct operation of the device.", 12 AVDD (power) "Analog  Positive Supply Voltage, 5 V to 10 V.", 13 VBIAS (in) "Input Bias Voltage. This input voltage should be set such that VBIAS + 0.85 xVREF < AVDD and VBIAS - 0.85 x VREF > VSS where VREF is REF IN(+) - REF IN(-). Ideally, this should be tied halfway between AVDD and VSS. Thus with (See Datasheet)", 14 REF IN(-) (in) "Reference Input. The REF IN(-) can lie anywhere between AVDD and VSS provided REF IN(+) is greater than REF IN(-).", 15 REF IN(+) (in) "Reference Input. The reference input is differential provided REF IN(+) is greater than REF IN(-).REF IN(+) can lie anywhere between AVDD and VSS.", 16 REF OUT (out) "Reference Output. The internal 2.5 V reference is provided at this pin. This is a single-ended outputthat is referred to AGND. It is a buffered output capable of providing 1 mA to an external load.", 17 AIN2 (in) "Analog  Input Channel 2. Single-ended programmable gain  analog  input.", 18 AGND (power) "Ground Reference Point for Analog Circuitry.", 19 ~{TFS} (in) "Transmit Frame Synchronization. Active low logic input used to write serial data to the device with serial data expected after the falling edge of this pulse. In the self-clocking mode, the serial clock becomes active after (See Datasheet)", 20 ~{RFS} (in) "Receive Frame Synchronization. Active low logic input used to access serial data from the device. In the self-clocking mode, the SCLK and SDATA lines both become active after R\F\S\ goes low. In the external clocking mode, (See Datasheet)", 21 ~{DRDY} (out) "Logic  Output. A falling edge indicates that a new output word is available for transmission. The D\R\D\Y\ pin will return high upon completion of transmission of a full output word. D\R\D\Y\ is also used to indicate when (See Datasheet)", 22 SDATA (io) "Serial Data. Input/output with serial data being written to either the control register or the calibration registers and serial data being accessed from the control register, calibration registers, or the data register.(See Datasheet)", 23 DVDD (power) "Digital Supply Voltage, 5 V. DVDD should not exceed AVDD by more than 0.3 V in normal operation.", 24 DGND (power) "Ground Reference Point for Digital Circuitry."